# Altium schematic symbol library SCH - POWER - SWITCHMODE - ANALOG LTC7151S.SCHLIB: 1 symbol
Pins are listed as number, name and electrical type; pins without a type are passive.

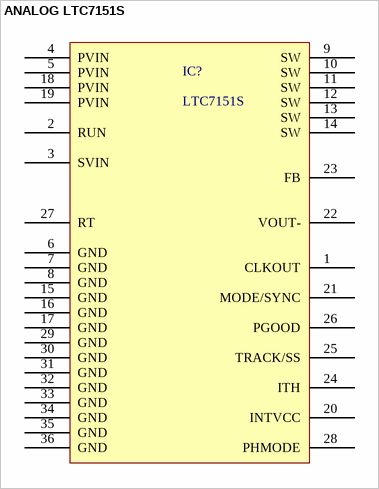
[diagram p0: symbol ANALOG LTC7151S]

## ANALOG LTC7151S
designator IC?, comment LTC7151S
pins: 1 CLKOUT, 2 RUN, 3 SVIN, 4 PVIN, 5 PVIN, 6 GND, 7 GND, 8 GND, 9 SW, 10 SW, 11 SW, 12 SW, 13 SW, 14 SW, 15 GND, 16 GND, 17 GND, 18 PVIN, 19 PVIN, 20 INTVCC, 21 MODE/SYNC, 22 VOUT-, 23 FB, 24 ITH, 25 TRACK/SS, 26 PGOOD, 27 RT, 28 PHMODE, 29 GND, 30 GND, 31 GND, 32 GND, 33 GND, 34 GND, 35 GND, 36 GND